# Altium schematic symbol library MCU STM32.SchLib: 1 symbol
Pins are listed as number, name and electrical type; pins without a type are passive.

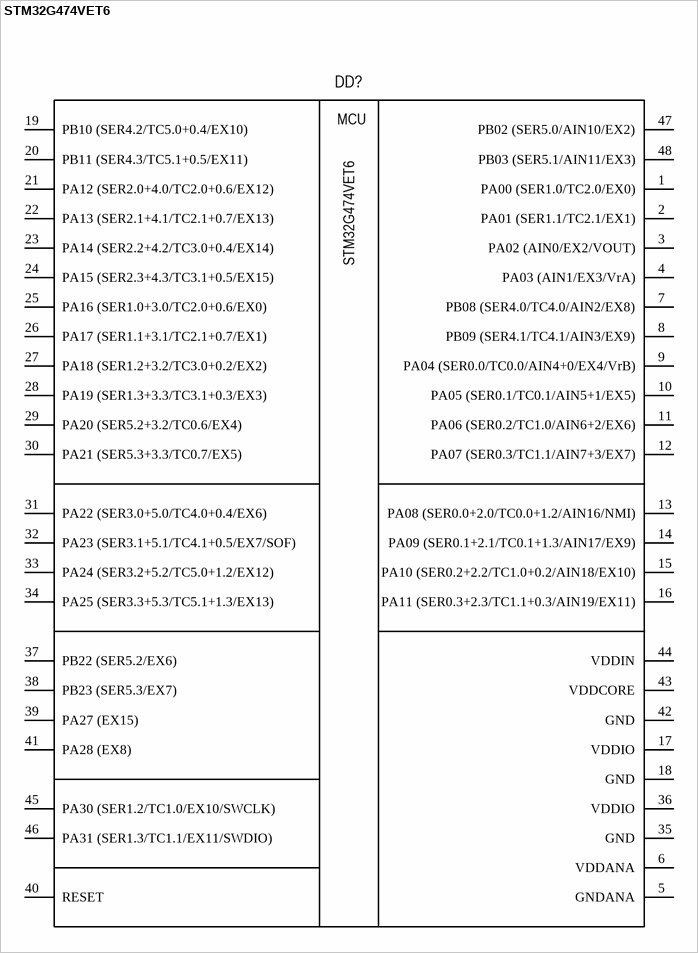
[diagram p0: symbol STM32G474VET6]

## STM32G474VET6
designator DD?
MCU STM32G4 Cortex-M4; Manufacturer: ST; Group: Digital - MCU; Core Size: 32 Bit; Speed: 48MHz; Connectivity: SERCOMx6 (USART, SPI, I2C); Number of I/O: 38; Program Memory Size: 64KB; Core Processor: ARM Cortex-M4; RAM Size: 8KB; Voltage Supply: 1.62V - 3.63V; Data Converters: ADCx14, DAC, ACx2; Clock sources: TCx6, WFx2, RTC; Package: QFN-48; Part name: STM32G474VET6; Operating Temperature: -40°C +85°C; Thickness: 0.90mm; Dimension: 7.00mm x 7.00mm; Mounting Type: Surface Mount
footprint QFN-48 (Thin QFN, 100-Leads, Body 7x7mm, Pitch 0.5mm, IPC Medium Density)
pins: 1 PA00 (SER1.0/TC2.0/EX0), 2 PA01 (SER1.1/TC2.1/EX1), 3 PA02 (AIN0/EX2/VOUT), 4 PA03 (AIN1/EX3/VrA), 5 GNDANA, 6 VDDANA, 7 PB08 (SER4.0/TC4.0/AIN2/EX8), 8 PB09 (SER4.1/TC4.1/AIN3/EX9), 9 PA04 (SER0.0/TC0.0/AIN4+0/EX4/VrB), 10 PA05 (SER0.1/TC0.1/AIN5+1/EX5), 11 PA06 (SER0.2/TC1.0/AIN6+2/EX6), 12 PA07 (SER0.3/TC1.1/AIN7+3/EX7), 13 PA08 (SER0.0+2.0/TC0.0+1.2/AIN16/NMI), 14 PA09 (SER0.1+2.1/TC0.1+1.3/AIN17/EX9), 15 PA10 (SER0.2+2.2/TC1.0+0.2/AIN18/EX10), 16 PA11 (SER0.3+2.3/TC1.1+0.3/AIN19/EX11), 17 VDDIO, 18 GND, 19 PB10 (SER4.2/TC5.0+0.4/EX10), 20 PB11 (SER4.3/TC5.1+0.5/EX11), 21 PA12 (SER2.0+4.0/TC2.0+0.6/EX12), 22 PA13 (SER2.1+4.1/TC2.1+0.7/EX13), 23 PA14 (SER2.2+4.2/TC3.0+0.4/EX14), 24 PA15 (SER2.3+4.3/TC3.1+0.5/EX15), 25 PA16 (SER1.0+3.0/TC2.0+0.6/EX0), 26 PA17 (SER1.1+3.1/TC2.1+0.7/EX1), 27 PA18 (SER1.2+3.2/TC3.0+0.2/EX2), 28 PA19 (SER1.3+3.3/TC3.1+0.3/EX3), 29 PA20 (SER5.2+3.2/TC0.6/EX4), 30 PA21 (SER5.3+3.3/TC0.7/EX5), 31 PA22 (SER3.0+5.0/TC4.0+0.4/EX6), 32 PA23 (SER3.1+5.1/TC4.1+0.5/EX7/SOF), 33 PA24 (SER3.2+5.2/TC5.0+1.2/EX12), 34 PA25 (SER3.3+5.3/TC5.1+1.3/EX13), 35 GND, 36 VDDIO, 37 PB22 (SER5.2/EX6), 38 PB23 (SER5.3/EX7), 39 PA27 (EX15), 40 RESET, 41 PA28 (EX8), 42 GND, 43 VDDCORE, 44 VDDIN, 45 PA30 (SER1.2/TC1.0/EX10/SWCLK), 46 PA31 (SER1.3/TC1.1/EX11/SWDIO), 47 PB02 (SER5.0/AIN10/EX2), 48 PB03 (SER5.1/AIN11/EX3)
text: MCU